# EAGLE library part 87759-12_S (library untitled)
HEADER
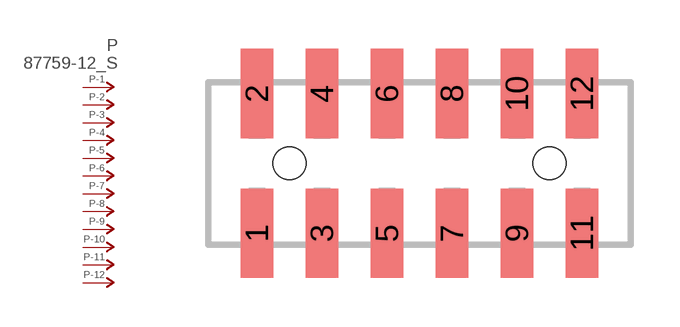
[diagram p361: symbol with the pads of 87759-12; footprint 87759-12]

Designator prefix P; gates -1=P-NV -2=P-N -3=P-N -4=P-N -5=P-N -6=P-N -7=P-N -8=P-N -9=P-N -10=P-N -11=P-N -12=P-N

## 87759-12_S  [87759-12]
1  -1:P  pas
2  -2:P  pas
3  -3:P  pas
4  -4:P  pas
5  -5:P  pas
6  -6:P  pas
7  -7:P  pas
8  -8:P  pas
9  -9:P  pas
10  -10:P  pas
11  -11:P  pas
12  -12:P  pas

## Footprint 87759-12 (pad centres in mm)
HEADER SMD Dual Row, Vertical
smd 1 x 2.75: 1 -5,-2.15; 2 -5,2.15; 3 -3,-2.15; 4 -3,2.15; 5 -1,-2.15; 6 -1,2.15; 7 1,-2.15; 8 1,2.15; 9 3,-2.15; 10 3,2.15; 11 5,-2.15; 12 5,2.15
hole 1 at -4,0
hole 1 at 4,0